# Altium schematic symbol library OSC.SchLib: 1 symbol
Pins are listed as number, name and electrical type; pins without a type are passive.

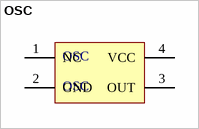
[diagram p0: symbol OSC]

## OSC
designator OSC
footprint OSC-SMD_4P-L3.2-W2.5-BL-CXC3X260000GHVRT3R
pins: 1 NC, 2 GND, 3 OUT, 4 VCC